# EAGLE library part QFP-44-10X10 (library SMD_Qualifier)
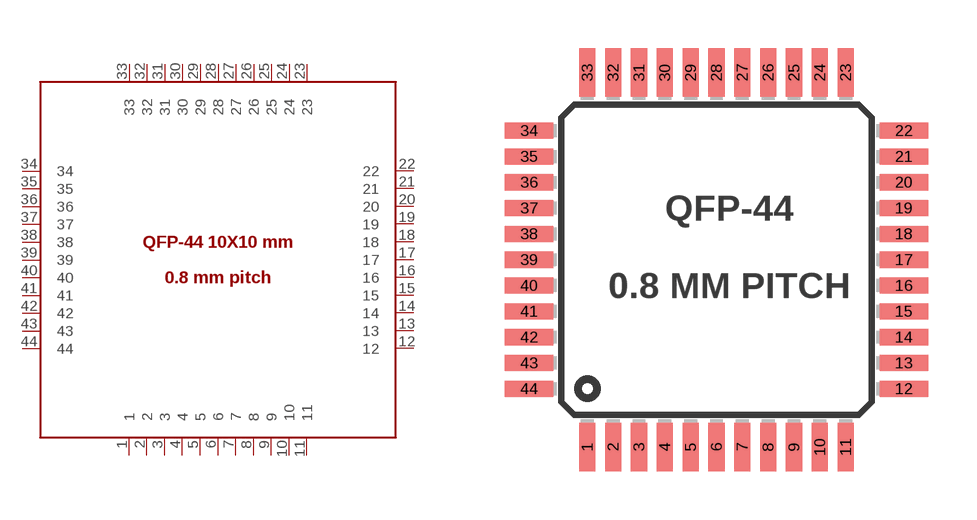
[diagram p4: symbol with the pads of QFP-44; footprint QFP-44]

Designator prefix -

## QFP-44-10X10  [QFP-44]
1  1
2  2
3  3
4  4
5  5
6  6
7  7
8  8
9  9
10  10
11  11
12  12
13  13
14  14
15  15
16  16
17  17
18  18
19  19
20  20
21  21
22  22
23  23
24  24
25  25
26  26
27  27
28  28
29  29
30  30
31  31
32  32
33  33
34  34
35  35
36  36
37  37
38  38
39  39
40  40
41  41
42  42
43  43
44  44

## Footprint QFP-44 (pad centres in mm)
LQFP-44, 10 x 10 mm, 0.8 mm pitch
smd 0.5 x 1.5: 1 -4.4,-6.2; 2 -3.6,-6.2; 3 -2.8,-6.2; 4 -2,-6.2; 5 -1.2,-6.2; 6 -0.4,-6.2; 7 0.4,-6.2; 8 1.2,-6.2; 9 2,-6.2; 10 2.8,-6.2; 11 3.6,-6.2; 23 3.6,5.4; 24 2.8,5.4; 25 2,5.4; 26 1.2,5.4; 27 0.4,5.4; 28 -0.4,5.4; 29 -1.2,5.4; 30 -2,5.4; 31 -2.8,5.4; 32 -3.6,5.4; 33 -4.4,5.4
smd 1.5 x 0.5: 12 5.4,-4.4; 13 5.4,-3.6; 14 5.4,-2.8; 15 5.4,-2; 16 5.4,-1.2; 17 5.4,-0.4; 18 5.4,0.4; 19 5.4,1.2; 20 5.4,2; 21 5.4,2.8; 22 5.4,3.6; 34 -6.2,3.6; 35 -6.2,2.8; 36 -6.2,2; 37 -6.2,1.2; 38 -6.2,0.4; 39 -6.2,-0.4; 40 -6.2,-1.2; 41 -6.2,-2; 42 -6.2,-2.8; 43 -6.2,-3.6; 44 -6.2,-4.4